# Altium schematic symbol library Schlib1.SchLib: 13 symbols
Pins are listed as number, name and electrical type; pins without a type are passive.

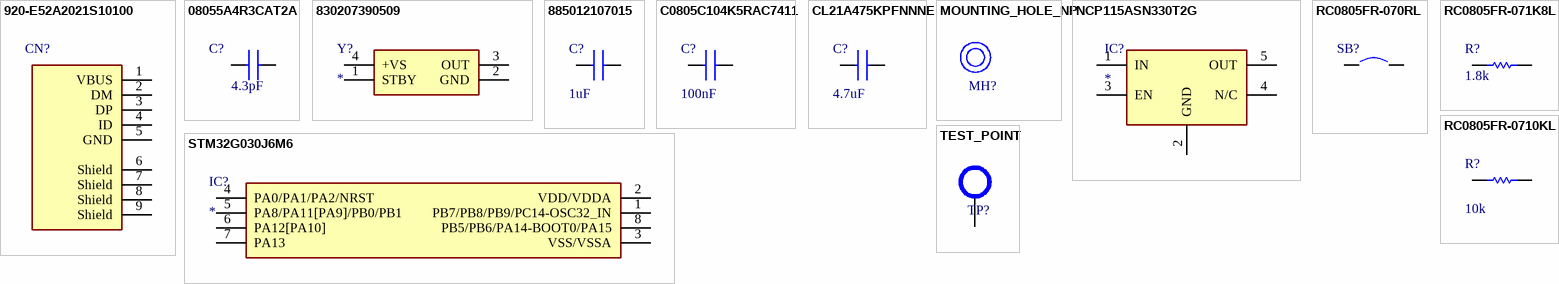
[diagram p0: symbols 920-E52A2021S10100 to TEST_POINT]

## 920-E52A2021S10100
designator CN?  (value not drawn)
USB connector; Manufacturer_Name: Jing Extension of the Electronic Co.; Datasheet Link: http://toshiba.semicon-storage.com/info/docget.jsp?did=65346&prodName=TB67H450FNG; Height: 1.9mm; Manufacturer_Part_Number: https://datasheet.lcsc.com/lcsc/2103051832_Jing-Extension-of-the-Electronic-Co--920-E52A2021S10100_C10418.pdf; Mouser Part Number: 920-E52A2021S10100; Mouser Price/Stock: https://www.mouser.co.uk/ProductDetail/Toshiba/TB67H450FNGEL?qs=h6V4JsTaLXeReNg2bp0jug%3D%3D; Arrow Part Number: TB67H450FNG,EL; Arrow Price/Stock: https://www.arrow.com/en/products/tb67h450fngel/toshiba?region=nac
footprint USB307530A
pins: 1 VBUS, 2 DM, 3 DP, 4 ID, 5 GND, 6 Shield, 7 Shield, 8 Shield, 9 Shield

## 08055A4R3CAT2A
designator C?  value 4.3pF  (hidden comment: *)
Capacitor; Manufacturer_Name: AVX; Manufacturer_Part_Number: 08055A4R3CAT2A; Datasheet Link: http://datasheets.avx.com/C0GNP0-Dielectric.pdf; Height: 0.94mm
footprint CAPC2012X94N
pins: 1, 2

## 830207390509
designator Y?
Crystal or Oscillator; Manufacturer_Name: Wurth Elektronik; Manufacturer_Part_Number: 830207390509; Description: Standard Clock Oscillators WE-SPXO 32.7680kHz 30ppm 2.5 x 2.0mm; Datasheet Link: https://www.we-online.com/catalog/datasheet/830207390509.pdf; Height: 0.95mm; Mouser Part Number: 710-830207390509; Mouser Price/Stock: https://www.mouser.co.uk/ProductDetail/Wurth-Elektronik/830207390509?qs=hd1VzrDQEGhCHFmQl67v7A%3D%3D
footprint 830207390509
pins: 1 STBY, 2 GND, 3 OUT, 4 +VS

## 885012107015
designator C?  value 1uF  (hidden comment: *)
Capacitor; Manufacturer_Name: Wurth Elektronik; Manufacturer_Part_Number: 885012107015; Datasheet Link: https://katalog.we-online.com/pbs/datasheet/885012107015.pdf; Height: 1.35mm; Mouser Part Number: 710-885012107015; Mouser Price/Stock: https://www.mouser.co.uk/ProductDetail/Wurth-Elektronik/885012107015?qs=0KOYDY2FL2%252BNQREZP%252BtVoQ%3D%3D
footprint CAPC2012X135N
pins: 1, 2

## C0805C104K5RAC7411
designator C?  value 100nF  (hidden comment: *)
Capacitor; Manufacturer_Name: Kemet; Manufacturer_Part_Number: C0805C104K5RAC7411; Datasheet Link: https://www.mouser.com/datasheet/2/212/KEM_C1002_X7R_SMD-1102033.pdf; Height: 0.88mm; Mouser Part Number: 80-C0805C104K5RACLR; Mouser Price/Stock: https://www.mouser.co.uk/ProductDetail/KEMET/C0805C104K5RAC7411?qs=jbRM9o5BbzPcVXF0wW9AYg%3D%3D; Arrow Part Number: C0805C104K5RAC7411; Arrow Price/Stock: https://www.arrow.com/en/products/c0805c104k5rac7411/kemet-corporation
footprint CAPC2012X94N
pins: 1, 2

## CL21A475KPFNNNE
designator C?  value 4.7uF  (hidden comment: *)
Capacitor; Manufacturer_Name: Wurth Elektronik; Manufacturer_Part_Number: CL21A475KPFNNNE; Datasheet Link: https://www.mouser.fr/datasheet/2/585/MLCC-1837944.pdf; Height: 1.35mm; Mouser Part Number: 187-CL21A475KPFNNNE; Mouser Price/Stock: https://www.mouser.co.uk/ProductDetail/Wurth-Elektronik/885012107015?qs=0KOYDY2FL2%252BNQREZP%252BtVoQ%3D%3D
footprint CAPC2012X135N
pins: 1, 2

## MOUNTING_HOLE_NP
designator MH?  (value not drawn)  (no BOM)
Mounting hole
footprint MOUNTING_HOLE_NP

## NCP115ASN330T2G
designator IC?
Integrated Circuit; Manufacturer_Name: ON Semiconductor; Manufacturer_Part_Number: NCP115ASN330T2G; Description: 300 MA CMOS LOW DROPOUT R; Datasheet Link: http://www.onsemi.com/pub/Collateral/NCP115-D.PDF; Height: 1.1mm; Mouser Part Number: 863-NCP115ASN330T2G; Mouser Price/Stock: https://www.mouser.co.uk/ProductDetail/onsemi/NCP115ASN330T2G?qs=byeeYqUIh0PuUump9WHLUw%3D%3D; Arrow Part Number: NCP115ASN330T2G; Arrow Price/Stock: https://www.arrow.com/en/products/ncp115asn330t2g/on-semiconductor?region=europe
footprint SOT95P275X110-5N
pins: 1 IN, 2 GND, 3 EN, 4 N/C, 5 OUT

## RC0805FR-070RL
designator SB?  (value not drawn)
Jumper (0 ohm); Manufacturer_Name: YAGEO (PHYCOMP); Manufacturer_Part_Number: RC0805FR-070RL; Datasheet Link: https://datasheet.datasheetarchive.com/originals/distributors/Datasheets_SAMA/902f9e387b938f871d31120f5fc1d65e.pdf; Height: 0.6mm; Mouser Part Number: 603-RC0805FR-070RL; Mouser Price/Stock: https://www.mouser.co.uk/ProductDetail/YAGEO/RC0805FR-070RL?qs=fRxXYNj8ftF6kXqh1XbZJQ%3D%3D
footprint RESC2012X60N
pins: 1, 2

## RC0805FR-071K8L
designator R?  value 1.8k  (hidden comment: *)
Resistor; Manufacturer_Name: YAGEO (PHYCOMP); Manufacturer_Part_Number: RC0805FR-071K8L; Datasheet Link: https://datasheet.datasheetarchive.com/originals/distributors/Datasheets_SAMA/902f9e387b938f871d31120f5fc1d65e.pdf; Height: 0.6mm; Mouser Part Number: 603-RC0805FR-071K8L; Mouser Price/Stock: https://www.mouser.co.uk/ProductDetail/Yageo/RC0805FR-071K8L/?qs=BrN8wpjQTgHgSGvPYmemsg%3D%3D
footprint RESC2012X60N
pins: 1, 2

## RC0805FR-0710KL
designator R?  value 10k  (hidden comment: *)
Resistor; Manufacturer_Name: YAGEO (PHYCOMP); Manufacturer_Part_Number: RC0805FR-0710KL; Datasheet Link: https://datasheet.datasheetarchive.com/originals/distributors/Datasheets_SAMA/902f9e387b938f871d31120f5fc1d65e.pdf; Height: 0.6mm; Mouser Part Number: 603-RC0805FR-0710KL; Mouser Price/Stock: https://www.mouser.co.uk/ProductDetail/YAGEO/RC0805FR-0710KL?qs=7bY8808IzHq6vrU3BeiiYw%3D%3D; Arrow Part Number: RC0805FR-0710KL; Arrow Price/Stock: https://www.arrow.com/en/products/rc0805fr-0710kl/yageo?region=europe
footprint RESC2012X60N
pins: 1, 2

## STM32G030J6M6
designator IC?
Integrated Circuit; Manufacturer_Name: STMicroelectronics; Manufacturer_Part_Number: STM32G030J6M6; Datasheet Link: https://componentsearchengine.com/Datasheets/1/STM32G030J6M6.pdf; Height: 1.75mm; Mouser Part Number: 511-STM32G030J6M6; Mouser Price/Stock: https://www.mouser.co.uk/ProductDetail/STMicroelectronics/STM32G030J6M6?qs=uwxL4vQweFMe%2Fiu4dY6izA%3D%3D; Arrow Part Number: STM32G030J6M6; Arrow Price/Stock: https://www.arrow.com/en/products/stm32g030j6m6/stmicroelectronics?region=nac
footprint SOIC127P600X175-8N
pins: 1 PB7/PB8/PB9/PC14-OSC32_IN, 2 VDD/VDDA, 3 VSS/VSSA, 4 PA0/PA1/PA2/NRST, 5 PA8/PA11[PA9]/PB0/PB1, 6 PA12[PA10], 7 PA13, 8 PB5/PB6/PA14-BOOT0/PA15

## TEST_POINT
designator TP?  (value not drawn)  (no BOM)
Test point
footprint TEST_POINT (Test point)
pins: TP